# Altium footprint library DBQ16.PcbLib: 1 footprints
Each footprint in its own frame and in the unit in brackets; x right, y up, seen from the top. Pads: shape width x height; smd on the part's side, far side on the other; paste and mask are expansions set on the pad; w line width, h text height; cw(c..) or ccw(c..) is an arc to the next point about the centre after c.
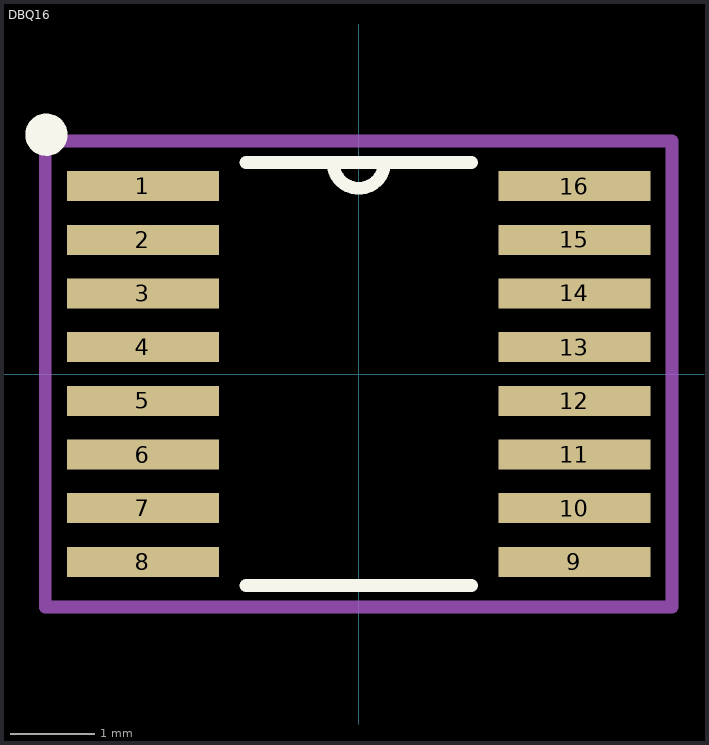
[diagram p0: the footprint, top view; thin cyan lines are the x and y axes]

## DBQ16 [mil]
pads (16):
  rect 71x14 smd: 1(-100.5,87.5) 2(-100.5,62.5) 3(-100.5,37.5) 4(-100.5,12.5) 5(-100.5,-12.5) 6(-100.5,-37.5) 7(-100.5,-62.5) 8(-100.5,-87.5) 9(100.5,-87.5) 10(100.5,-62.5) 11(100.5,-37.5) 12(100.5,-12.5) 13(100.5,12.5) 14(100.5,37.5) 15(100.5,62.5) 16(100.5,87.5)
Top Overlay:
  circle w9.84: c-145.49,111.46 r4.92
  lines w6: -52.53,-98.5 52.53,-98.5 ; -52.53,98.5 52.53,98.5 ; -12,98.5 ccw(c0,98.5) 12,98.5
Mechanical 13:
  lines w0: -12,98.5 ccw(c0,98.5) 12,98.5
Mechanical 15:
  lines w6: -146,-108.5 -146,108.5 146,108.5 146,-108.5 -146,-108.5
3D body "DBQ0016A.stp": height 63.87, standoff -0.13, extent -117.56,-96 119.56,97